# EAGLE library part XC2C64ACP56 (library xilinx)
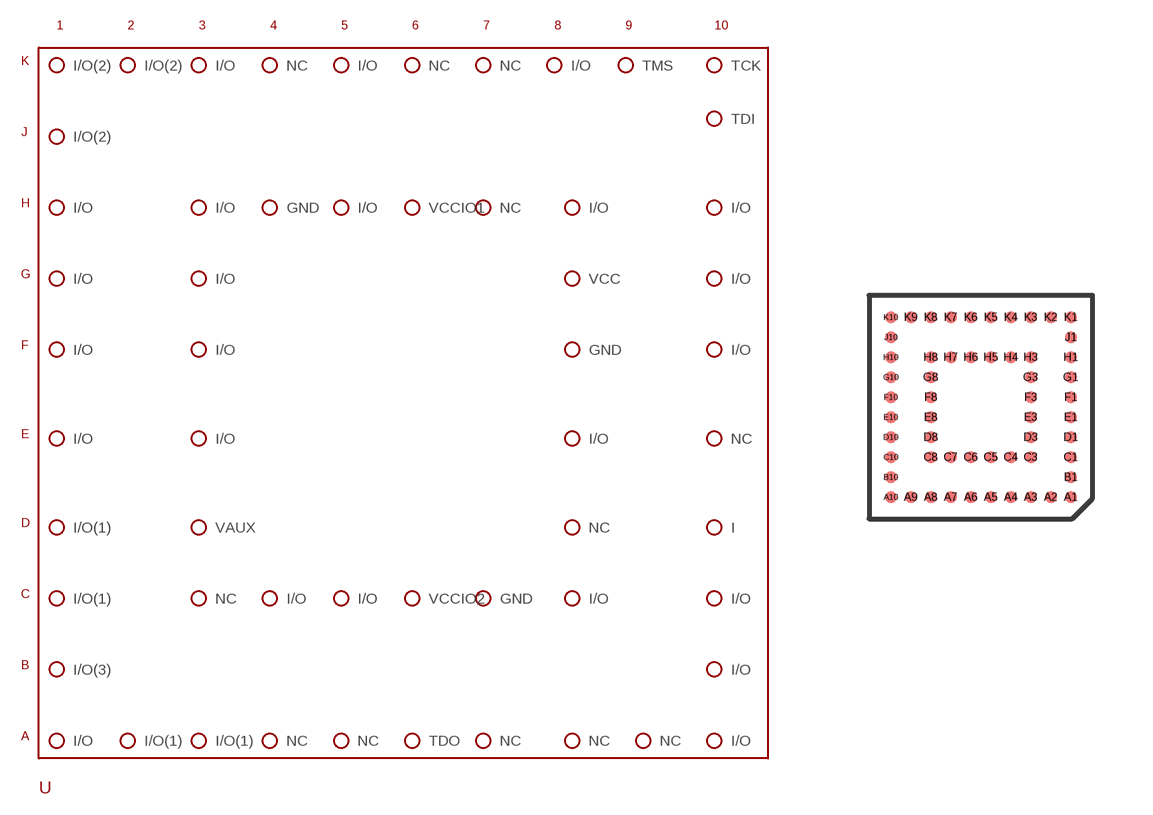
[diagram p5: symbol with the pads of CP56; footprint CP56]

Designator prefix -

## XC2C64ACP56  [CP56]
A1  I/O
A2  I/O(1)
A3  I/O(1)
A4  NC
A5  NC
A6  TDO
A7  NC
A8  NC
A9  NC
A10  I/O
B1  I/O(3)
B10  I/O
C1  I/O(1)
C3  NC
C4  I/O
C5  I/O
C6  VCCIO2
C7  GND
C8  I/O
C10  I/O
D1  I/O(1)
D3  VAUX
D8  NC
D10  I
E1  I/O
E3  I/O
E8  I/O
E10  NC
F1  I/O
F3  I/O
F8  GND
F10  I/O
G1  I/O
G3  I/O
G8  VCC
G10  I/O
H1  I/O
H3  I/O
H4  GND
H5  I/O
H6  VCCIO1
H7  NC
H8  I/O
H10  I/O
J1  I/O(2)
J10  TDI
K1  I/O(2)
K2  I/O(2)
K3  I/O
K4  NC
K5  I/O
K6  NC
K7  NC
K8  I/O
K9  TMS
K10  TCK

## Footprint CP56 (pad centres in mm)
smd 0.3 x 0.3: A1 2.25,-2.25; A2 1.75,-2.25; A3 1.25,-2.25; A4 0.75,-2.25; A5 0.25,-2.25; A6 -0.25,-2.25; A7 -0.75,-2.25; A8 -1.25,-2.25; A9 -1.75,-2.25; A10 -2.25,-2.25; B1 2.25,-1.75; B10 -2.25,-1.75; C1 2.25,-1.25; C3 1.25,-1.25; C4 0.75,-1.25; C5 0.25,-1.25; C6 -0.25,-1.25; C7 -0.75,-1.25; C8 -1.25,-1.25; C10 -2.25,-1.25; D1 2.25,-0.75; D3 1.25,-0.75; D8 -1.25,-0.75; D10 -2.25,-0.75; E1 2.25,-0.25; E3 1.25,-0.25; E8 -1.25,-0.25; E10 -2.25,-0.25; F1 2.25,0.25; F3 1.25,0.25; F8 -1.25,0.25; F10 -2.25,0.25; G1 2.25,0.75; G3 1.25,0.75; G8 -1.25,0.75; G10 -2.25,0.75; H1 2.25,1.25; H3 1.25,1.25; H4 0.75,1.25; H5 0.25,1.25; H6 -0.25,1.25; H7 -0.75,1.25; H8 -1.25,1.25; H10 -2.25,1.25; J1 2.25,1.75; J10 -2.25,1.75; K1 2.25,2.25; K2 1.75,2.25; K3 1.25,2.25; K4 0.75,2.25; K5 0.25,2.25; K6 -0.25,2.25; K7 -0.75,2.25; K8 -1.25,2.25; K9 -1.75,2.25; K10 -2.25,2.25